# Altium footprint library WL-OCPT.PcbLib: 12 footprints
Each footprint in its own frame and in the unit in brackets; x right, y up, seen from the top. Pads: shape width x height; smd on the part's side, far side on the other; paste and mask are expansions set on the pad; w line width, h text height; cw(c..) or ccw(c..) is an arc to the next point about the centre after c.
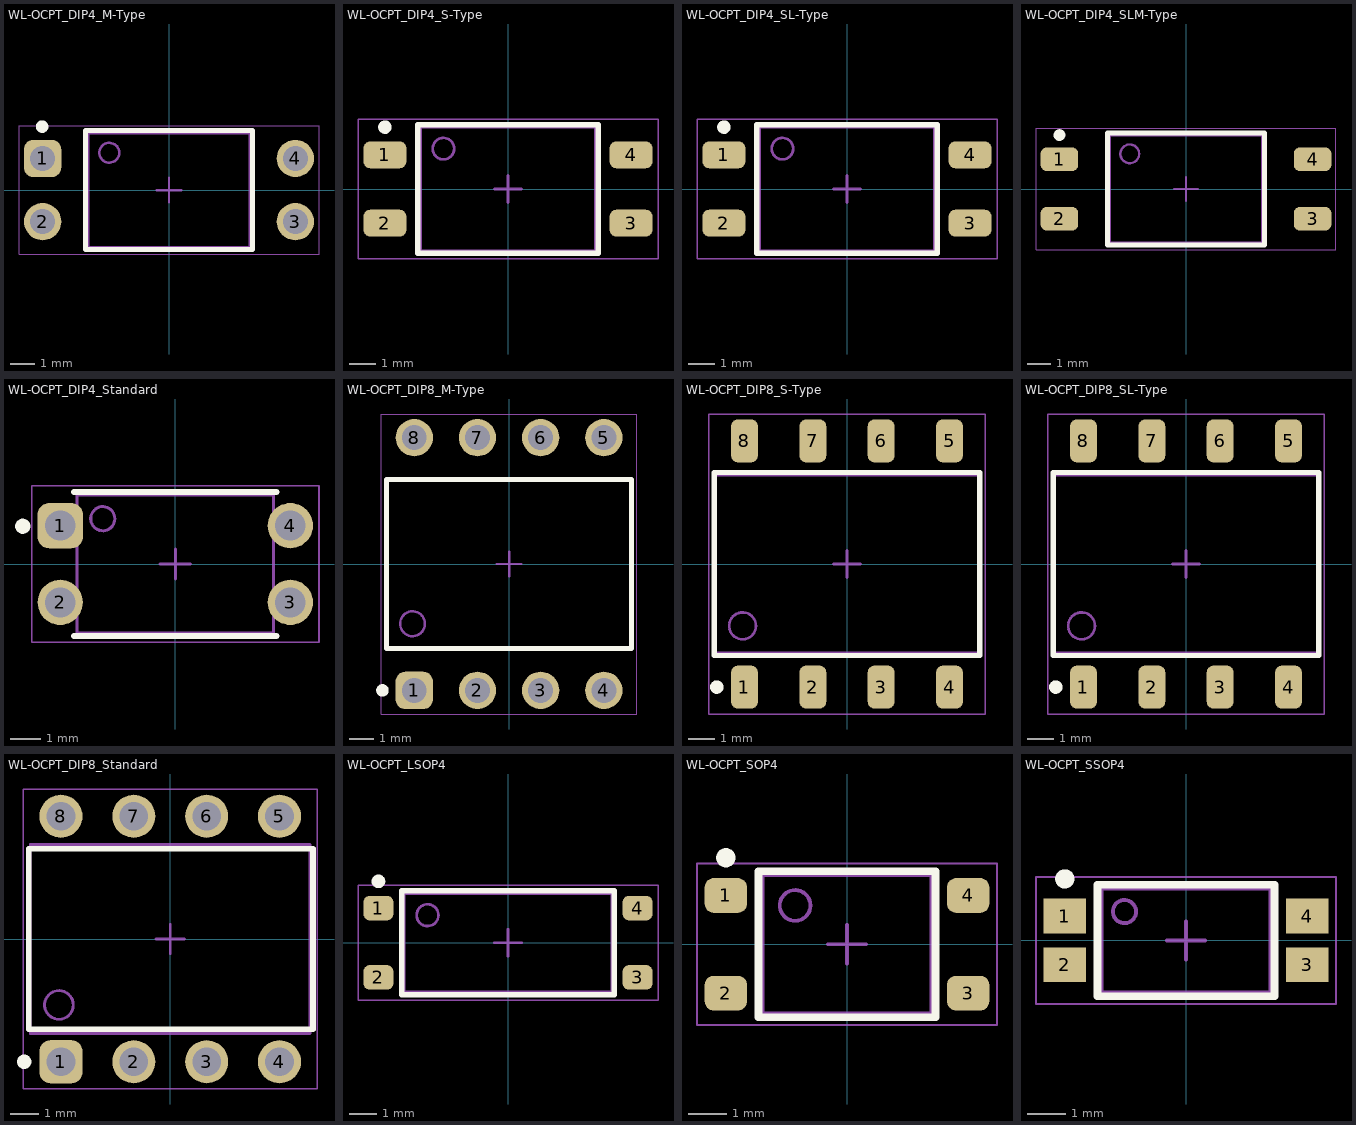
[diagram p0: the footprints below, top view; thin cyan lines are the x and y axes]

## WL-OCPT_DIP4_M-Type [mm] "Optocoupler Phototransistor, body 6.5x4.58mm"
height 4.58
pads (4):
  rrect50% 1.5x1.5 hole 1: 1(-5.08,1.27)
  round 1.5 hole 1: 2(-5.08,-1.27) 3(5.08,-1.27) 4(5.08,1.27)
Top Overlay:
  circle w0.25: c-5.1,2.55 r0.125
  lines w0.2: -3.35,-2.39 -3.35,2.39 3.35,2.39 3.35,-2.39 -3.35,-2.39
Top Assembly:
  circle w0.1: c-2.4,1.5 r0.4
  lines w0.1: -3.25,-2.29 3.25,-2.29 3.25,2.29 -3.25,2.29 -3.25,-2.29
Top Designator:
  text ".Designator" at -3.647,-0.357 h1
Top 3D Body:
  circle w0.1: c-2.4,1.5 r0.4
  lines w0.1: -3.25,-2.29 3.25,-2.29 3.25,2.29 -3.25,2.29 -3.25,-2.29
Top Courtyard:
  lines w0.05: -6.03,-2.59 -6.03,2.59 6.03,2.59 6.03,-2.59 -6.03,-2.59
Top Component Center:
  lines w0.1: -0.5,0 0.5,0 ; 0,-0.5 0,0.5
3D body "WL-OCTP_DIP4_816_M_rev1.stp": height 4.15, standoff -2.62, extent -5.205,-2.29 5.205,2.29

## WL-OCPT_DIP4_S-Type [mm] "Optocoupler Phototransistor, body 6.5x4.58mm"
height 4.3
pads (4):
  rrect50% 1.6x1 smd: 1(-4.575,1.27) 2(-4.575,-1.27) 3(4.575,-1.27) 4(4.575,1.27)
Top Overlay:
  circle w0.25: c-4.575,2.3 r0.125
  lines w0.2: -3.35,-2.39 -3.35,2.39 3.35,2.39 3.35,-2.39 -3.35,-2.39
Top Assembly:
  circle w0.1: c-2.4,1.5 r0.4
  lines w0.1: -3.25,-2.29 -3.25,2.29 3.25,2.29 3.25,-2.29 -3.25,-2.29
Top Designator:
  text ".Designator" at -3.647,-0.357 h1
Top 3D Body:
  circle w0.1: c-2.4,1.5 r0.4
  lines w0.1: -3.25,-2.29 -3.25,2.29 3.25,2.29 3.25,-2.29 -3.25,-2.29
Top Courtyard:
  lines w0.05: -5.575,-2.59 5.575,-2.59 5.575,2.59 -5.575,2.59 -5.575,-2.59
Top Component Center:
  lines w0.1: -0.5,0 0.5,0 ; 0,-0.5 0,0.5
3D body "WL-OCTP_DIP4_816_S_rev1.stp": height 4.3, standoff -0.01, extent -5.075,-2.29 5.075,2.29

## WL-OCPT_DIP4_SL-Type [mm] "Optocoupler Phototransistor, body 6.5x4.58mm"
height 3.6
pads (4):
  rrect50% 1.6x1 smd: 1(-4.575,1.27) 2(-4.575,-1.27) 3(4.575,-1.27) 4(4.575,1.27)
Top Overlay:
  circle w0.25: c-4.575,2.3 r0.125
  lines w0.2: -3.35,-2.39 -3.35,2.39 3.35,2.39 3.35,-2.39 -3.35,-2.39
Top Assembly:
  circle w0.1: c-2.4,1.5 r0.4
  lines w0.1: -3.25,-2.29 3.25,-2.29 3.25,2.29 -3.25,2.29 -3.25,-2.29
Top Designator:
  text ".Designator" at -3.647,-0.357 h1
Top 3D Body:
  circle w0.1: c-2.4,1.5 r0.4
  lines w0.1: -3.25,-2.29 3.25,-2.29 3.25,2.29 -3.25,2.29 -3.25,-2.29
Top Courtyard:
  lines w0.05: -5.575,-2.59 5.575,-2.59 5.575,2.59 -5.575,2.59 -5.575,-2.59
Top Component Center:
  lines w0.1: -0.5,0 0.5,0 ; 0,-0.5 0,0.5
3D body "WL-OCTP_DIP4_816_SL_rev1.stp": height 3.6, standoff -0.01, extent -5.075,-2.29 5.075,2.29

## WL-OCPT_DIP4_SLM-Type [mm] "Optocoupler Phototransistor, body 6.5x4.58mm"
height 3.75
pads (4):
  rrect50% 1.6x1 smd: 1(-5.4,1.27) 2(-5.4,-1.27) 3(5.4,-1.27) 4(5.4,1.27)
Top Overlay:
  circle w0.25: c-5.4,2.3 r0.125
  lines w0.2: -3.35,-2.39 -3.35,2.39 3.35,2.39 3.35,-2.39 -3.35,-2.39
Top Assembly:
  circle w0.1: c-2.4,1.5 r0.4
  lines w0.1: -3.25,-2.29 3.25,-2.29 3.25,2.29 -3.25,2.29 -3.25,-2.29
Top Designator:
  text ".Designator" at -3.647,-0.357 h1
Top 3D Body:
  circle w0.1: c-2.4,1.5 r0.4
  lines w0.1: -3.25,-2.29 3.25,-2.29 3.25,2.29 -3.25,2.29 -3.25,-2.29
Top Courtyard:
  lines w0.05: -6.4,-2.59 6.4,-2.59 6.4,2.59 -6.4,2.59 -6.4,-2.59
Top Component Center:
  lines w0.1: -0.5,0 0.5,0 ; 0,-0.5 0,0.5
3D body "WL-OCTP_DIP4_816_SLM_rev1.stp": height 3.75, standoff 0, extent -5.9,-2.29 5.9,2.29

## WL-OCPT_DIP4_Standard [mm] "Optocoupler Phototransistor, body 6.5x4.58mm"
height 4.5
pads (4):
  rrect50% 1.5x1.5 hole 1: 1(-3.81,1.27)
  round 1.5 hole 1: 2(-3.81,-1.27) 3(3.81,-1.27) 4(3.81,1.27)
Top Overlay:
  circle w0.25: c-5.05,1.25 r0.125
  lines w0.2: -3.35,-2.39 3.35,-2.39 ; -3.35,2.39 3.35,2.39
Top Assembly:
  circle w0.1: c-2.4,1.5 r0.4
  lines w0.1: -3.25,-2.29 -3.25,2.29 3.25,2.29 3.25,-2.29 -3.25,-2.29
Top Designator:
  text ".Designator" at -3.647,-0.357 h1
Top 3D Body:
  circle w0.1: c-2.4,1.5 r0.4
  lines w0.1: -3.25,-2.29 -3.25,2.29 3.25,2.29 3.25,-2.29 -3.25,-2.29
Top Courtyard:
  lines w0.05: -4.76,-2.59 4.76,-2.59 4.76,2.59 -4.76,2.59 -4.76,-2.59
Top Component Center:
  lines w0.1: -0.5,0 0.5,0 ; 0,-0.5 0,0.5
3D body "WL-OCPT_DIP4_816_Standard_rev1.stp": height 4.25, standoff -3.06, extent -4.377,-2.29 4.377,2.29

## WL-OCPT_DIP8_M-Type [mm] "Phototransistor, SMT, DIP8, body 9.76x10.16mm"
height 4.58
pads (8):
  rrect50% 1.5x1.5 hole 1 paste-2539.97: 1(-3.81,-5.08)
  round 1.5 hole 1 paste-2539.97: 2(-1.27,-5.08) 3(1.27,-5.08) 4(3.81,-5.08) 5(3.81,5.08) 6(1.27,5.08) 7(-1.27,5.08) 8(-3.81,5.08)
Top Overlay:
  circle w0.25: c-5.09,-5.08 r0.125
  lines w0.2: -4.93,-3.4 -4.93,3.4 4.93,3.4 4.93,-3.4 -4.93,-3.4
Top Assembly:
  circle w0.1: c-3.88,-2.4 r0.5
  lines w0.1: -4.88,-3.4 4.88,-3.4 4.88,3.4 -4.88,3.4 -4.88,-3.4
Top Designator:
  text ".Designator" at -3.647,-0.357 h1
Top 3D Body:
  circle w0.1: c-3.88,-2.4 r0.5
  lines w0.1: -4.88,-3.4 4.88,-3.4 4.88,3.4 -4.88,3.4 -4.88,-3.4
Top Courtyard:
  lines w0.05: -5.13,-6.03 -5.13,6.03 5.13,6.03 5.13,-6.03 -5.13,-6.03
Top Component Center:
  lines w0.1: -0.5,0 0.5,0 ; 0,-0.5 0,0.5
3D body "WL-OCPT_827_M.stp": height 4.05, standoff -2.73, extent -4.88,-5.205 4.88,5.205

## WL-OCPT_DIP8_S-Type [mm] "Phototransistor, SMT, DIP8, body 9.76x10.15mm"
height 4.3
pads (8):
  rrect50% 1x1.6 smd: 1(-3.81,-4.575) 2(-1.27,-4.575) 3(1.27,-4.575) 4(3.81,-4.575) 5(3.81,4.575) 6(1.27,4.575) 7(-1.27,4.575) 8(-3.81,4.575)
Top Overlay:
  circle w0.25: c-4.84,-4.575 r0.125
  lines w0.2: -4.93,-3.4 4.93,-3.4 4.93,3.4 -4.93,3.4 -4.93,-3.4
Top Assembly:
  circle w0.1: c-3.88,-2.3 r0.5
  lines w0.1: -4.88,-3.3 -4.88,3.3 4.88,3.3 4.88,-3.3 -4.88,-3.3
Top Designator:
  text ".Designator" at -3.647,-0.357 h1
Top 3D Body:
  circle w0.1: c-3.88,-2.3 r0.5
  lines w0.1: -4.88,-3.3 -4.88,3.3 4.88,3.3 4.88,-3.3 -4.88,-3.3
Top Courtyard:
  lines w0.05: -5.13,-5.575 5.13,-5.575 5.13,5.575 -5.13,5.575 -5.13,-5.575
Top Component Center:
  lines w0.1: -0.5,0 0.5,0 ; 0,-0.5 0,0.5
3D body "WL-OCPT_827_S.stp": height 4.32, standoff 0.02, extent -4.88,-5.075 4.88,5.075

## WL-OCPT_DIP8_SL-Type [mm] "Phototransistor, SMT, DIP8, body 9.76x10.15mm"
height 3.6
pads (8):
  rrect50% 1x1.6 smd: 1(-3.81,-4.575) 2(-1.27,-4.575) 3(1.27,-4.575) 4(3.81,-4.575) 5(3.81,4.575) 6(1.27,4.575) 7(-1.27,4.575) 8(-3.81,4.575)
Top Overlay:
  circle w0.25: c-4.84,-4.575 r0.125
  lines w0.2: -4.93,-3.4 -4.93,3.4 4.93,3.4 4.93,-3.4 -4.93,-3.4
Top Assembly:
  circle w0.1: c-3.88,-2.3 r0.5
  lines w0.1: -4.88,-3.3 4.88,-3.3 4.88,3.3 -4.88,3.3 -4.88,-3.3
Top Designator:
  text ".Designator" at -3.647,-0.357 h1
Top 3D Body:
  circle w0.1: c-3.88,-2.3 r0.5
  lines w0.1: -4.88,-3.3 4.88,-3.3 4.88,3.3 -4.88,3.3 -4.88,-3.3
Top Courtyard:
  lines w0.05: -5.13,-5.575 -5.13,5.575 5.13,5.575 5.13,-5.575 -5.13,-5.575
Top Component Center:
  lines w0.1: -0.5,0 0.5,0 ; 0,-0.5 0,0.5
3D body "WL-OCPT_827_SL.stp": height 3.62, standoff 0.02, extent -4.88,-5.075 4.88,5.075

## WL-OCPT_DIP8_Standard [mm] "Phototransistor, THT, DIP8, body 9.76x9.50mm"
height 4.5
pads (8):
  rrect50% 1.5x1.5 hole 1 paste-2539.97: 1(-3.81,-4.28)
  round 1.5 hole 1 paste-2539.97: 2(-1.27,-4.28) 3(1.27,-4.28) 4(3.81,-4.28) 5(3.81,4.28) 6(1.27,4.28) 7(-1.27,4.28) 8(-3.81,4.28)
Top Overlay:
  circle w0.25: c-5.09,-4.28 r0.125
  lines w0.2: -4.93,-3.15 4.98,-3.15 4.98,3.15 -4.93,3.15 -4.93,-3.15
Top Assembly:
  circle w0.1: c-3.88,-2.3 r0.5
  lines w0.1: -4.88,-3.3 -4.88,3.3 4.88,3.3 4.88,-3.3 -4.88,-3.3
Top Designator:
  text ".Designator" at -3.647,-0.357 h1
Top 3D Body:
  circle w0.1: c-3.88,-2.3 r0.5
  lines w0.1: -4.88,-3.3 -4.88,3.3 4.88,3.3 4.88,-3.3 -4.88,-3.3
Top Courtyard:
  lines w0.05: -5.13,-5.23 5.13,-5.23 5.13,5.23 -5.13,5.23 -5.13,-5.23
Top Component Center:
  lines w0.1: -0.5,0 0.5,0 ; 0,-0.5 0,0.5
3D body "WL-OCPT_827_Standard.stp": height 4.3, standoff -3, extent -4.88,-4.626 4.88,4.626

## WL-OCPT_LSOP4 [mm] "Optocoupler Phototransistor, body 7.6x3.6mm"
height 2.1
pads (4):
  rrect50% 1.1x0.9 smd: 1(-4.75,1.27) 2(-4.75,-1.27) 3(4.75,-1.27) 4(4.75,1.27)
Top Overlay:
  circle w0.25: c-4.75,2.25 r0.125
  lines w0.2: -3.9,-1.9 3.9,-1.9 3.9,1.9 -3.9,1.9 -3.9,-1.9
Top Assembly:
  circle w0.1: c-2.95,1.01 r0.4
  lines w0.1: -3.8,-1.8 3.8,-1.8 3.8,1.8 -3.8,1.8 -3.8,-1.8
Top Designator:
  text ".Designator" at -3.647,-0.357 h1
Top 3D Body:
  circle w0.1: c-2.95,1.01 r0.4
  lines w0.1: -3.8,-1.8 3.8,-1.8 3.8,1.8 -3.8,1.8 -3.8,-1.8
Top Courtyard:
  lines w0.05: -5.5,-2.1 -5.5,2.1 5.5,2.1 5.5,-2.1 -5.5,-2.1
Top Component Center:
  lines w0.1: -0.5,0 0.5,0 ; 0,-0.5 0,0.5
3D body "WL-OCPT_140101xxx.stp": height 2.1, standoff 0, extent -5.1,-1.8 5.1,1.8

## WL-OCPT_SOP4 [mm] "Optocoupler Phototransistor, body 4.4x3.6mm"
height 2.1
pads (4):
  rrect50% 1.1x0.9 smd: 1(-3.15,1.27) 2(-3.15,-1.27) 3(3.15,-1.27) 4(3.15,1.27)
Top Overlay:
  circle w0.25: c-3.15,2.25 r0.125
  lines w0.2: -2.3,-1.9 2.3,-1.9 2.3,1.9 -2.3,1.9 -2.3,-1.9
Top Assembly:
  circle w0.1: c-1.35,1.01 r0.4
  lines w0.1: -2.2,-1.8 2.2,-1.8 2.2,1.8 -2.2,1.8 -2.2,-1.8
Top Designator:
  text ".Designator" at -3.647,-0.357 h1
Top 3D Body:
  circle w0.1: c-1.35,1.01 r0.4
  lines w0.1: -2.2,-1.8 2.2,-1.8 2.2,1.8 -2.2,1.8 -2.2,-1.8
Top Courtyard:
  lines w0.05: -3.9,-2.1 -3.9,2.1 3.9,2.1 3.9,-2.1 -3.9,-2.1
Top Component Center:
  lines w0.1: -0.5,0 0.5,0 ; 0,-0.5 0,0.5
3D body "WL-OCPT_140356xxx.stp": height 2.1, standoff 0, extent -3.5,-1.8 3.5,1.8

## WL-OCPT_SSOP4 [mm] "Optocoupler  Phototransistor, SSOP-4"
height 2.1
pads (4):
  rect 1.1x0.9 smd: 1(-3.15,0.635) 2(-3.15,-0.635) 3(3.15,-0.635) 4(3.15,0.635)
Top Overlay:
  circle w0.25: c-3.15,1.6 r0.125
  lines w0.2: -2.3,-1.45 -2.3,1.45 2.3,1.45 2.3,-1.45 -2.3,-1.45
Top Assembly:
  circle w0.1: c-1.6,0.75 r0.3
  lines w0.1: -2.3,-1.45 -2.3,1.45 2.3,1.45 2.3,-1.45 -2.3,-1.45
Top Designator:
  text ".Designator" at -3.647,-0.357 h1
Top 3D Body:
  circle w0.1: c-1.6,0.75 r0.3
  lines w0.1: -2.2,-1.35 -2.2,1.35 2.2,1.35 2.2,-1.35 -2.2,-1.35
Top Courtyard:
  lines w0.05: -3.9,-1.65 -3.9,1.65 3.9,1.65 3.9,-1.65 -3.9,-1.65
Top Component Center:
  lines w0.1: -0.5,0 0.5,0 ; 0,-0.5 0,0.5
3D body "14021x14xx.stp": height 2.1, standoff 0, extent -3.5,-1.35 3.5,1.35